# Altium schematic symbol library INA219.SchLib: 1 symbol
Pins are listed as number, name and electrical type; pins without a type are passive.

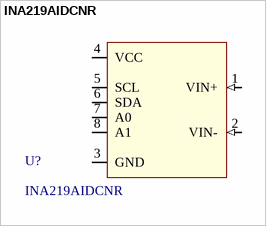
[diagram p0: symbol INA219AIDCNR]

## INA219AIDCNR
designator U?
26V, Bi-Directional, High-Side, I2C Out Current/Power Monitor 8-SOT-23 -40 to 125; Manufacturer: Texas Instruments; Bandwidth: 3.4MHz; Nominal Supply Current: 700uA; Min Input Voltage: 0uV; Common Mode Rejection Ratio: 100dB; Max Supply Voltage: 5.5V; Min Supply Voltage: 3V; Output Current: 10mA; Accuracy: 1%; Operating Supply Current: 1mA; Number of Amplifiers: 1; Input Offset Voltage (Vos): 100uV; Max Supply Current: 5mA; Output Type: Digital; Supplier 1: Farnell; Manufacturer Part Number: INA219AIDCNR; Stock 1: 13730; Pricing 1: 1 = 1,75000, 25 = 1,54000, 50 = 1,39000, 100 = 1,23000, 250 = 1,16000, 500 = 1,08000, 1000 = 0,89900, 2500 = 0,80300 (EUR); Case/Package: SOT-23-8; Number of Pins: 8; Weight: 0.001411oz; Contact Plating: Gold; Min Operating Temperature: -40°C; Max Operating Temperature: 125°C; Packaging: Tape and Reel; Package Quantity: 3000; Max Input Voltage: 26V; Output Current per Channel: 10mA; Quiescent Current: 700uA; Features: I²C; Length: 3mm; Height: 1.3mm; Width: 1.75mm; Radiation Hardening: No; REACH SVHC: No SVHC; Lead Free: Lead Free; ComponentLink1URL: http://www.ti.com/lit/ds/symlink/ina219.pdf?src-supplier=Farnell; ComponentLink1Description: http://www.ti.com/lit/ds/symlink/ina219.pdf?src-supplier=Farnell; ComponentLink2URL: http://www.ti.com/lit/ds/symlink/ina219.pdf?src-supplier=Digi-Key; ComponentLink2Description: http://www.ti.com/lit/ds/symlink/ina219.pdf?src-supplier=Digi-Key; ComponentLink3URL: http://www.farnell.com/datasheets/1725057.pdf?src-supplier=Element14; ComponentLink3Description: http://www.farnell.com/datasheets/1725057.pdf?src-supplier=Element14; ComponentLink4URL: http://www.ti.com/general/docs/lit/getliterature.tsp?genericPartNumber=INA219&&fileType=pdf&src-supplier=Element14; ComponentLink4Description: http://www.ti.com/general/docs/lit/getliterature.tsp?genericPartNumber=INA219&&fileType=pdf&src-supplier=Element14; ComponentLink5URL: http://www.ti.com/general/docs/lit/getliterature.tsp?genericPartNumber=INA219&&fileType=pdf&src-supplier=Avnet; ComponentLink5Description: http://www.ti.com/general/docs/lit/getliterature.tsp?genericPartNumber=INA219&&fileType=pdf&src-supplier=Avnet; ComponentLink6URL: https://www.verical.com/server-webapp/html/getDatasheet?partID=327029&src-supplier=Verical; ComponentLink6Description: https://www.verical.com/server-webapp/html/getDatasheet?partID=327029&src-supplier=Verical; ComponentLink7URL: https://octopart.com/click/track?ak=2673a2b2&ct=datasheets&sig=0ce0873&at=physicalpart&sid=370&ppid=8600986&hlid=24884001&src-supplier=TI+store; ComponentLink7Description: https://octopart.com/click/track?ak=2673a2b2&ct=datasheets&sig=0ce0873&at=physicalpart&sid=370&ppid=8600986&hlid=24884001&src-supplier=TI+store; ComponentLink8URL: http://datasheet.octopart.com/INA219AIDCNR-Texas-Instruments-datasheet-10258484.pdf?src-supplier=TI+store; ComponentLink8Description: http://datasheet.octopart.com/INA219AIDCNR-Texas-Instruments-datasheet-10258484.pdf?src-supplier=TI+store; ComponentLink9URL: http://datasheet.octopart.com/INA219AIDCNR-Texas-Instruments-datasheet-10383171.pdf?src-supplier=TI+store; ComponentLink9Description: http://datasheet.octopart.com/INA219AIDCNR-Texas-Instruments-datasheet-10383171.pdf?src-supplier=TI+store; ComponentLink10URL: http://sigma.octopart.com/49252122/technical_drawing/Texas-Instruments-INA219AIDCNR.pdf?src-supplier=TI+store; ComponentLink10Description: http://sigma.octopart.com/49252122/technical_drawing/Texas-Instruments-INA219AIDCNR.pdf?src-supplier=TI+store; ComponentLink11URL: http://datasheet.octopart.com/INA219AIDCNR-Texas-Instruments-datasheet-11538655.pdf?src-supplier=Future+Electronics; ComponentLink11Description: http://datasheet.octopart.com/INA219AIDCNR-Texas-Instruments-datasheet-11538655.pdf?src-supplier=Future+Electronics; ComponentLink12URL: http://datasheet.octopart.com/INA219AIDCNR-Texas-Instruments-datasheet-102489495.pdf?src-supplier=Farnell; ComponentLink12Description: http://datasheet.octopart.com/INA219AIDCNR-Texas-Instruments-datasheet-102489495.pdf?src-supplier=Farnell; ComponentLink13URL: http://datasheet.octopart.com/INA219AIDCNR-Texas-Instruments-datasheet-24897021.pdf?src-supplier=Element14; ComponentLink13Description: http://datasheet.octopart.com/INA219AIDCNR-Texas-Instruments-datasheet-24897021.pdf?src-supplier=Element14; ComponentLink14URL: http://datasheet.octopart.com/INA219AIDCNR-Texas-Instruments-datasheet-14155040.pdf?src-supplier=IIIC; ComponentLink14Description: http://datasheet.octopart.com/INA219AIDCNR-Texas-Instruments-datasheet-14155040.pdf?src-supplier=IIIC; ComponentLink15URL: http://datasheet.octopart.com/INA219AIDCNR.-Texas-Instruments-datasheet-62277359.pdf?src-supplier=Element14; ComponentLink15Description: http://datasheet.octopart.com/INA219AIDCNR.-Texas-Instruments-datasheet-62277359.pdf?src-supplier=Element14; Supplier Part Number 1: 2295989
footprint SOT23-8
pins: 1 VIN+ (in), 2 VIN- (in), 3 GND (power), 4 VCC (power), 5 SCL (io), 6 SDA (io), 7 A0, 8 A1